# Altium footprint library JMPKG.PcbLib: 337 footprints (part 12 of 22)
Each footprint in its own frame and in the unit in brackets; x right, y up, seen from the top. Pads: shape width x height; smd on the part's side, far side on the other; paste and mask are expansions set on the pad; w line width, h text height; cw(c..) or ccw(c..) is an arc to the next point about the centre after c.
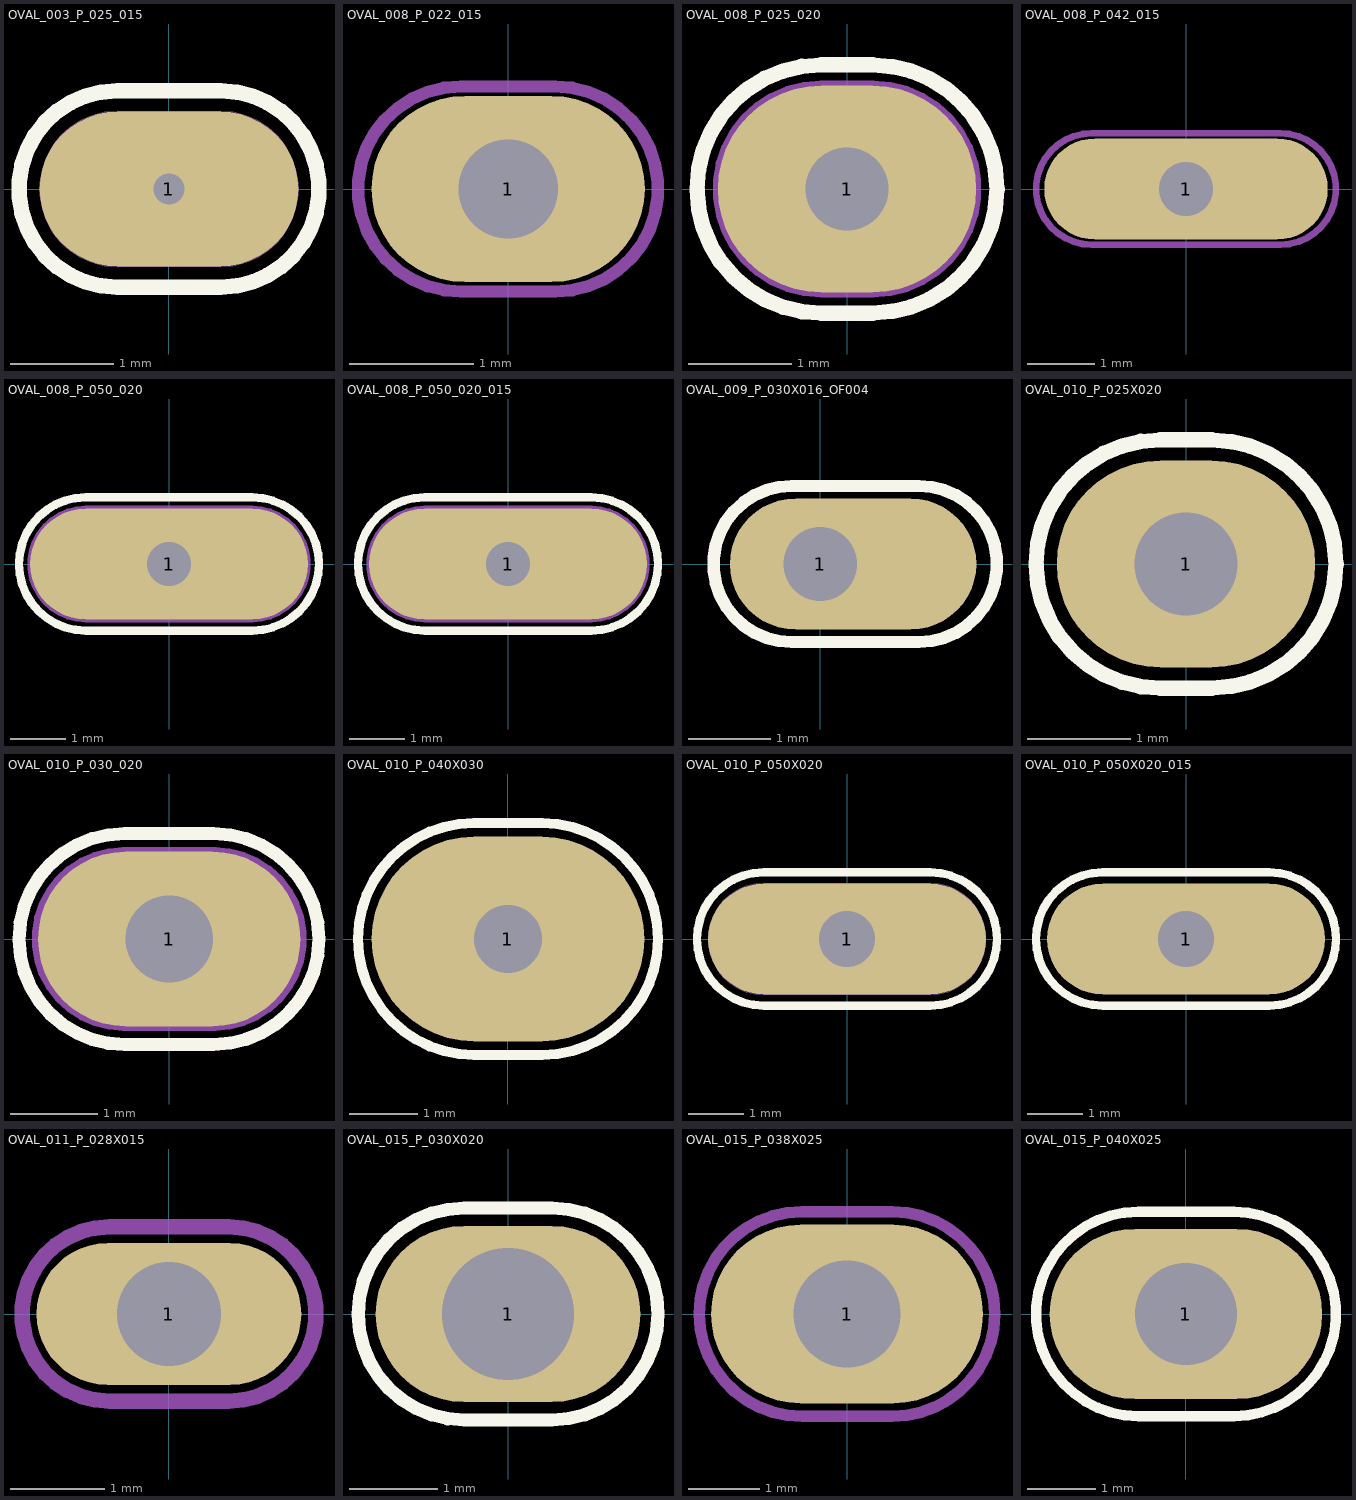
[diagram p11: the footprints below, top view; thin cyan lines are the x and y axes]

## OVAL_003_P_025_015 [mm]
pads (1):
  oval 2.5x1.5 hole 0.3 mask+0.05: 1(0,0)
Top Overlay:
  lines w0.15: -0.5,-0.95 0.5,-0.95 ccw(c0.5,0) 0.5,0.95 -0.5,0.95 ccw(c-0.5,0) -0.5,-0.95
Mechanical 15:
  lines w0.01: -0.499,0.75 ccw(c-0.5,0) -0.497,-0.75 0.5,-0.75 ccw(c0.5,0) 0.5,0.75 -0.498,0.75
Multi-Layer:
  text "Value" at -0.988,-0.505 h0.6
  text "Value" at -0.988,-0.575 h0.6
Mechanical 20:
  lines w0.01: -0.5,-0.95 0.5,-0.95 ccw(c0.5,0) 0.5,0.95 -0.5,0.95 ccw(c-0.5,0) -0.5,-0.95

## OVAL_008_P_022_015 [mm]
pads (1):
  oval 2.2x1.5 hole 0.8 mask+0.1: 1(0,0)
Mechanical 15:
  lines w0.1: -0.382,0.826 ccw(c-0.383,0) -0.381,-0.825 0.381,-0.826 ccw(c0.381,0) 0.381,0.826 -0.381,0.826

## OVAL_008_P_025_020 [mm]
pads (1):
  oval 2.5x2 hole 0.8 mask+0.05: 1(0,0)
Top Overlay:
  lines w0.15: -0.25,1.2 ccw(c-0.252,0) -0.248,-1.2 ; -0.248,-1.2 0.251,-1.2 ccw(c0.251,0) 0.251,1.2 -0.248,1.2
Mechanical 15:
  lines w0.1: -0.25,1 ccw(c-0.251,0) -0.248,-1 ; -0.248,-1 0.251,-1 ccw(c0.251,0) 0.251,1 -0.248,1
Mechanical 20:
  lines w0.1: -0.25,1.2 ccw(c-0.252,0) -0.248,-1.2 ; -0.248,-1.2 0.251,-1.2 ccw(c0.251,0) 0.251,1.2 -0.248,1.2

## OVAL_008_P_042_015 [mm]
pads (1):
  oval 4.2x1.5 hole 0.8 mask+0.1: 1(0,0)
Mechanical 15:
  lines w0.1: -1.396,0.826 ccw(c-1.397,0) -1.394,-0.825 1.397,-0.826 ccw(c1.397,0) 1.397,0.826 -1.395,0.826
Multi-Layer:
  text "Value" at -1.045,-0.679 h0.75

## OVAL_008_P_050_020 [mm]
pads (1):
  oval 5x2 hole 0.8 mask+0.05: 1(0,0)
Top Overlay:
  lines w0.15: -1.499,1.2 ccw(c-1.501,0) -1.497,-1.2 1.501,-1.2 ccw(c1.501,0) 1.501,1.2 -1.497,1.2
Mechanical 15:
  lines w0.1: -1.498,1 ccw(c-1.5,0) -1.497,-1 ; -1.497,-1 1.5,-1 ccw(c1.5,0) 1.5,1 -1.497,1
Mechanical 20:
  lines w0.1: -1.498,1.2 ccw(c-1.5,0) -1.496,-1.2 1.5,-1.2 ccw(c1.5,0) 1.5,1.2 -1.496,1.2

## OVAL_008_P_050_020_015 [mm]
pads (1):
  oval 5x2 / inner round 1.5 / far side round 1.5 hole 0.8 mask+0.05: 1(0,0)
Top Overlay:
  lines w0.15: -1.499,1.2 ccw(c-1.501,0) -1.497,-1.2 1.501,-1.2 ccw(c1.501,0) 1.501,1.2 -1.497,1.2
Mechanical 15:
  lines w0.1: -1.498,1 ccw(c-1.5,0) -1.497,-1 ; -1.497,-1 1.5,-1 ccw(c1.5,0) 1.5,1 -1.497,1
Mechanical 20:
  lines w0.1: -1.498,1.2 ccw(c-1.5,0) -1.496,-1.2 1.5,-1.2 ccw(c1.5,0) 1.5,1.2 -1.496,1.2

## OVAL_009_P_030X016_OF004 [mm]
pads (1):
  oval 3x1.6 hole 0.9 copper offset 0.4,0 mask+0.05: 1(0,0)
Top Overlay:
  lines w0.15: -0.348,-0.95 1.201,-0.95 ccw(c1.201,0) 1.201,0.95 -0.348,0.95 ccw(c-0.35,0) -0.347,-0.95
Mechanical 15:
  circle w0.01: c0,0 r0.45
Mechanical 16:
  circle w0.01: c0,0 r0.45
Multi-Layer:
  text "Value" at -0.688,-0.675 h0.6
Mechanical 20:
  lines w0.01: -0.349,0.95 1.2,0.95 cw(c1.2,0) 1.2,-0.95 -0.349,-0.95 cw(c-0.351,0) -0.348,0.95

## OVAL_010_P_025X020 [mm]
pads (1):
  oval 2.5x2 hole 1 mask+0.05: 1(0,0)
Top Overlay:
  lines w0.15: -0.25,1.2 ccw(c-0.252,0) -0.248,-1.2 ; -0.248,-1.2 0.251,-1.2 ccw(c0.251,0) 0.251,1.2 -0.248,1.2
Drill Drawing:
  circle w0.01: c0,0 r0.5
Multi-Layer:
  text "Value" at -0.943,0.645 h0.6
Mechanical 20:
  lines w0.01: -0.25,1.2 ccw(c-0.252,0) -0.248,-1.2 ; -0.248,-1.2 0.251,-1.2 ccw(c0.251,0) 0.251,1.2 -0.248,1.2

## OVAL_010_P_030_020 [mm]
pads (1):
  oval 3x2 hole 1 mask+0.05: 1(0,0)
Top Overlay:
  lines w0.15: -0.509,1.207 ccw(c-0.511,0) -0.507,-1.206 ; -0.508,-1.206 0.508,-1.206 ccw(c0.508,0) 0.508,1.206 -0.508,1.206
Mechanical 15:
  lines w0.1: -0.522,1 ccw(c-0.524,0) -0.521,-1 0.524,-1 ccw(c0.524,0) 0.524,1 -0.521,1
Multi-Layer:
  text "Value" at -0.925,-0.096 h0.6
Mechanical 20:
  lines w0.1: -0.509,1.207 ccw(c-0.511,0) -0.507,-1.206 ; -0.508,-1.206 0.508,-1.206 ccw(c0.508,0) 0.508,1.206 -0.508,1.206

## OVAL_010_P_040X030 [mm]
pads (1):
  oval 4x3 hole 1 mask+0.05: 1(0,0)
Top Overlay:
  lines w0.15: -0.497,1.7 ccw(c-0.5,0) -0.494,-1.7 ; -0.495,-1.7 0.5,-1.7 ccw(c0.5,0) 0.5,1.7 -0.495,1.7
Mechanical 15:
  circle w0.1: c0,0 r0.5
Mechanical 16:
  circle w0.1: c0,0 r0.5
Mechanical 20:
  lines w0.1: -0.497,1.7 ccw(c-0.5,0) -0.494,-1.7 ; -0.495,-1.7 0.5,-1.7 ccw(c0.5,0) 0.5,1.7 -0.495,1.7

## OVAL_010_P_050X020 [mm]
pads (1):
  oval 5x2 hole 1 mask+0.05: 1(0,0)
Top Overlay:
  lines w0.15: -1.499,1.2 ccw(c-1.501,0) -1.497,-1.2 1.501,-1.2 ccw(c1.501,0) 1.501,1.2 -1.497,1.2
Mechanical 15:
  lines w0.01: -1.498,1 ccw(c-1.5,0) -1.497,-1 ; -1.497,-1 1.5,-1 ccw(c1.5,0) 1.5,1 -1.497,1
Multi-Layer:
  text "Value" at -0.943,0.645 h0.6
Mechanical 20:
  lines w0.01: -1.498,1.2 ccw(c-1.5,0) -1.496,-1.2 1.5,-1.2 ccw(c1.5,0) 1.5,1.2 -1.496,1.2

## OVAL_010_P_050X020_015 [mm]
pads (1):
  oval 5x2 / inner round 1.5 / far side round 1.5 hole 1 mask+0.05: 1(0,0)
Top Overlay:
  lines w0.15: -1.499,1.2 ccw(c-1.501,0) -1.497,-1.2 1.501,-1.2 ccw(c1.501,0) 1.501,1.2 -1.497,1.2
Mechanical 15:
  circle w0.01: c0,0 r0.5
Mechanical 16:
  circle w0.01: c0,0 r0.5
Multi-Layer:
  text "Value" at -0.943,0.645 h0.6
Mechanical 20:
  lines w0.01: -1.498,1.2 ccw(c-1.5,0) -1.496,-1.2 1.5,-1.2 ccw(c1.5,0) 1.5,1.2 -1.496,1.2

## OVAL_011_P_028X015 [mm]
pads (1):
  oval 2.8x1.5 hole 1.1 mask+0.05: 1(0,0)
Mechanical 15:
  lines w0.1: -0.632,0.889 ccw(c-0.633,0) -0.63,-0.889 ; -0.631,-0.889 0.636,-0.889 ccw(c0.636,0) 0.636,0.889 -0.631,0.889
Multi-Layer:
  text "Value" at -0.988,-0.858 h0.6
Mechanical 20:
  lines w0.1: -0.632,0.952 ccw(c-0.633,0) -0.63,-0.952 ; -0.631,-0.953 0.635,-0.953 ccw(c0.635,0) 0.635,0.953 -0.631,0.953

## OVAL_015_P_030X020 [mm]
pads (1):
  oval 3x2 hole 1.5 mask+0.05: 1(0,0)
Top Overlay:
  lines w0.15: -0.496,1.2 ccw(c-0.498,0) -0.494,-1.2 ; -0.495,-1.2 0.5,-1.2 ccw(c0.5,0) 0.5,1.2 -0.495,1.2
Mechanical 15:
  circle w0.1: c0,0 r0.75
Mechanical 16:
  circle w0.1: c0,0 r0.75
Mechanical 20:
  lines w0.1: -0.498,1.2 ccw(c-0.5,0) -0.496,-1.2 ; -0.496,-1.2 0.5,-1.2 ccw(c0.5,0) 0.5,1.2 -0.496,1.2

## OVAL_015_P_038X025 [mm]
pads (1):
  oval 3.8x2.5 hole 1.5 mask+0.05: 1(0,0)
Mechanical 15:
  lines w0.1: -0.633,1.397 ccw(c-0.635,0) -0.63,-1.397 ; -0.631,-1.397 0.636,-1.397 ccw(c0.636,0) 0.636,1.397 -0.631,1.397
Multi-Layer:
  text "Value" at -0.988,-0.858 h0.6
Mechanical 20:
  lines w0.1: -0.632,1.461 ccw(c-0.635,0) -0.63,-1.461 ; -0.631,-1.46 0.635,-1.46 ccw(c0.635,0) 0.635,1.46 -0.631,1.46

## OVAL_015_P_040X025 [mm]
pads (1):
  oval 4x2.5 hole 1.5 mask+0.05: 1(0,0)
Top Overlay:
  lines w0.15: -0.697,1.5 ccw(c-0.7,0) -0.695,-1.5 ; -0.696,-1.5 0.703,-1.5 ccw(c0.703,0) 0.703,1.5 -0.696,1.5
Mechanical 15:
  circle w0.01: c0,0 r0.75
Mechanical 16:
  circle w0.01: c0,0 r0.75
Multi-Layer:
  text "Value" at -1.172,-1.11 h0.75
Mechanical 20:
  lines w0.01: -0.697,1.5 ccw(c-0.7,0) -0.695,-1.5 ; -0.696,-1.5 0.7,-1.5 ccw(c0.7,0) 0.7,1.5 -0.696,1.5